# Altium schematic symbol library Power Drivers Half_Bridge.SchLib: 1 symbol
Pins are listed as number, name and electrical type; pins without a type are passive.

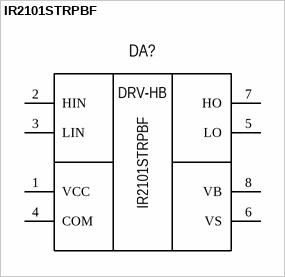
[diagram p0: symbol IR2101STRPBF]

## IR2101STRPBF
designator DA?
Driver Half bridge 210mA; Manufacturer: Infineon Technologies; Group: Power; Dimention: 5.80mm x 4.80mm; Component: Driver Half_Bridge; Voltage supply: 10.0V - 20.0V; Gate type: N; Side floating voltage supply: 600.0V; Rise time: 100ns; Fall time: 50ns; Current output: 130mA; Package: SOIC-8; Part name: IR2101STRPBF; Height: 1.35mm; Mounting type: Surface mount; Operating temperature: -40°C +150°C
footprint SOIC-8N
pins: 1 VCC "Power Input pin", 2 HIN "Power Input pin", 3 LIN "Power Input pin", 4 COM "Power Input pin", 5 LO "Power Input pin", 6 VS "Power Input pin", 7 HO "Power Input pin", 8 VB "Power Input pin"
text: DRV-HB